# Altium footprint library OSSI.PCBLIB: 194 footprints (part 9 of 13)
Each footprint in its own frame and in the unit in brackets; x right, y up, seen from the top. Pads: shape width x height; smd on the part's side, far side on the other; paste and mask are expansions set on the pad; w line width, h text height; cw(c..) or ccw(c..) is an arc to the next point about the centre after c.
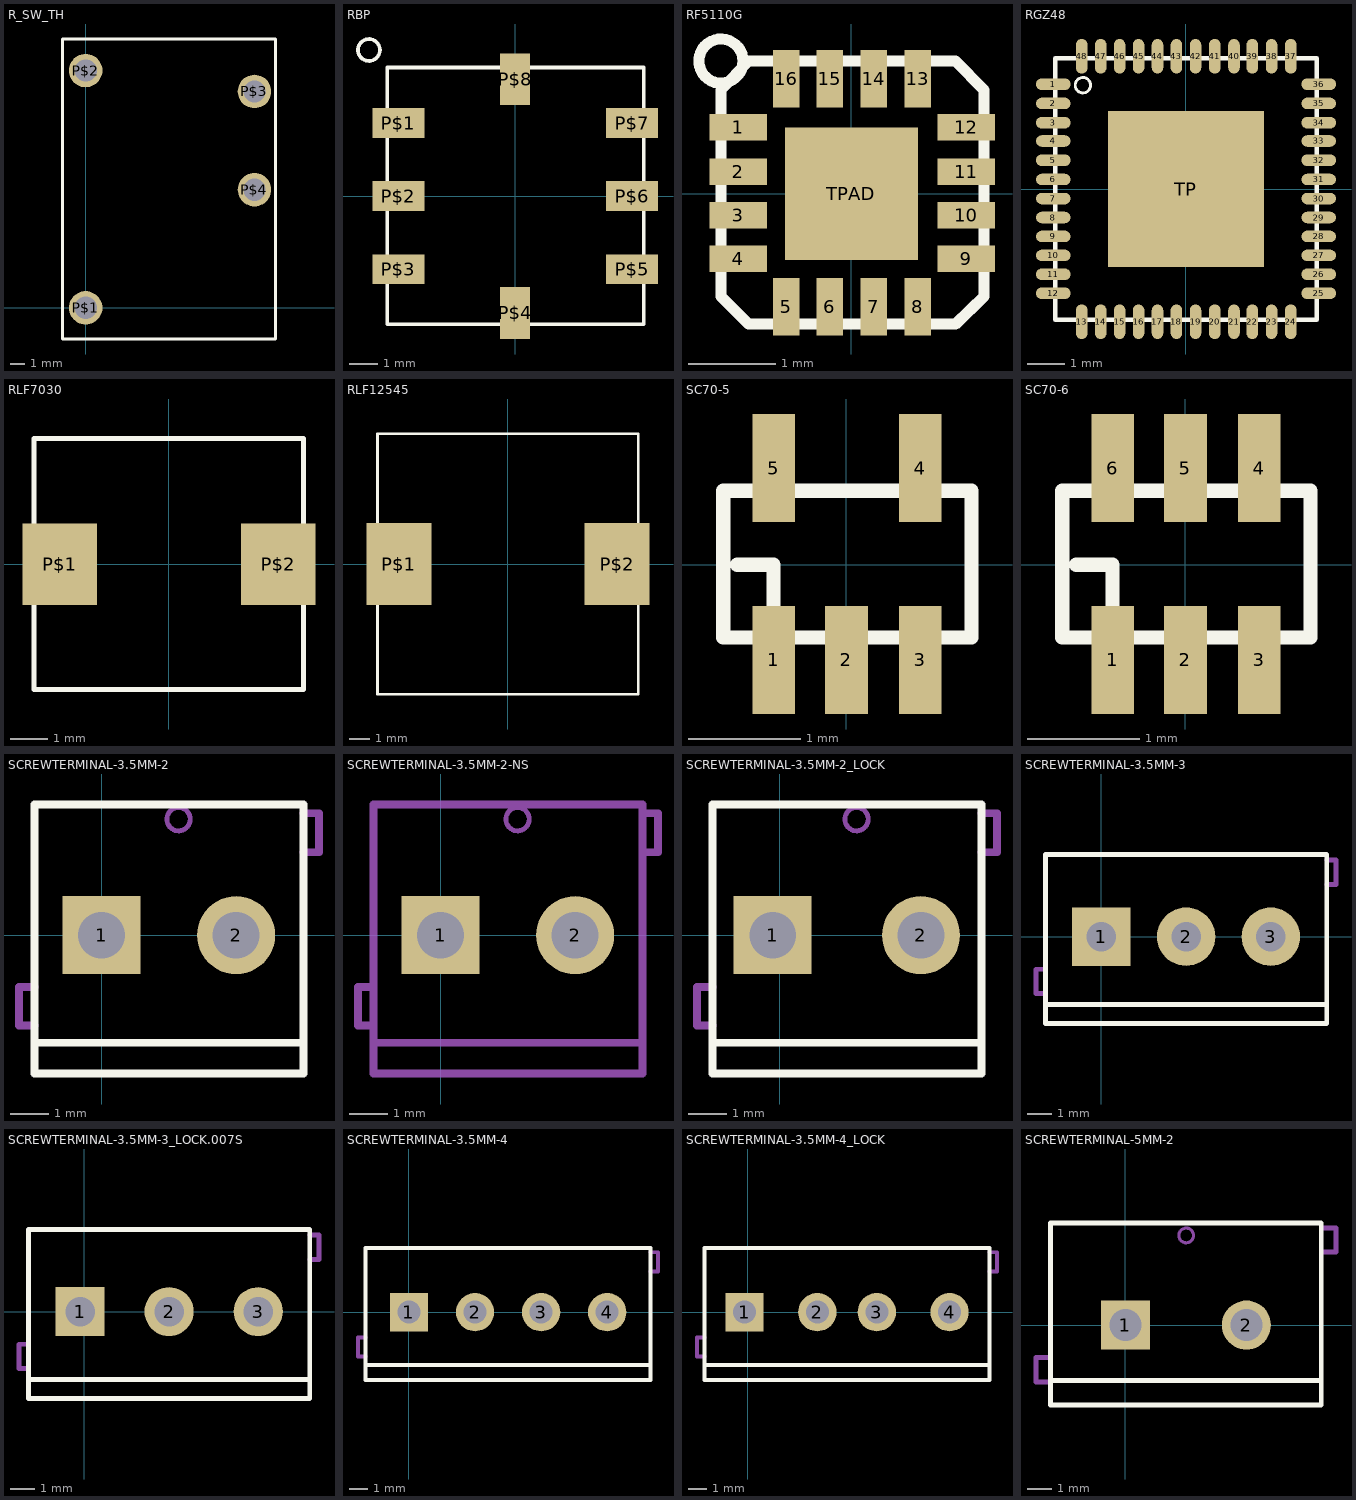
[diagram p8: the footprints below, top view; thin cyan lines are the x and y axes]

## R_SW_TH [mil]
pads (4):
  round 94.5 hole 63: P$1(0,0) P$2(0,669) P$3(476,610) P$4(476,333)
Top Overlay:
  lines w8: -65,-88 -65,-54 -65,758 535,758 535,-88 -65,-88

## RBP [mil]
pads (8):
  rect 71x41 smd: P$1(-159.84,100) P$2(-159.84,0) P$3(-159.84,-100) P$5(160,-100) P$6(160,0) P$7(160,100)
  rect 41x71 smd: P$4(0,-159.84) P$8(0,160)
Top Overlay:
  circle w5: c-200,200 r15
  lines w5: -175.2,-175.2 -175.2,176 176,176 176,-175.2 -175.2,-175.2
Mechanical 2:
  text ">NAME" at 100,-250 h77.5
Mechanical 4:
  text ">VALUE" at 100,-310 h77.5

## RF5110G [mil]
pads (17):
  rect 26x12 smd: 1(-51.18,30) 2(-51.18,10) 3(-51.18,-9.84) 4(-51.18,-29.53) 9(52,-29.53) 10(52,-9.84) 11(52,10) 12(52,30)
  rect 12x26 smd: 5(-29.53,-51.18) 6(-9.84,-51.18) 7(10,-51.18) 8(30,-51.18) 13(30,52) 14(10,52) 15(-9.84,52) 16(-29.53,52)
  rect 60x60 smd: TPAD(0,0)
Top Overlay:
  circle w5: c-59.06,60 r10
  lines w5: -59.06,-46.56 -59.06,47 -46.56,60 47,60 60,47 60,-46.56 47,-59.06 -46.56,-59.06 -59.06,-46.56
Top Solder:
  rectangle: -37.01,37 -22.05,66
  rectangle: -17.32,37 -2.36,66
  rectangle: 3,37 18,66
  rectangle: 23,37 38,66
  rectangle: -37.01,-65.75 -22.05,-36.61
  rectangle: -17.32,-65.75 -2.36,-36.61
  rectangle: 3,-65.75 18,-36.61
  rectangle: 23,-65.75 38,-36.61
  region: 66.07,-37.03 66.07,-22.03 36.93,-22.03 36.93,-37.03
  region: 66.2,-17.2 66.2,-2.2 36.8,-2.2 36.8,-17.2
  region: 66.36,2.64 66.36,17.64 36.64,17.64 36.64,2.64
  region: 66.5,22.5 66.5,37.5 36.5,37.5 36.5,22.5
  region: -36.61,-37.01 -36.61,-22.05 -65.75,-22.05 -65.75,-37.01
  region: -36.48,-17.19 -36.48,-2.22 -65.89,-2.22 -65.89,-17.19
  region: -36.32,2.66 -36.32,17.62 -66.04,17.62 -66.04,2.66
  region: -36.18,22.52 -36.18,37.48 -66.18,37.48 -66.18,22.52
  rectangle: -31.5,-31.5 32,32
Mechanical 2:
  text ">NAME" at -157.48,158 h108.5
Mechanical 4:
  text ">VALUE" at -157.48,79 h108.5

## RGZ48 [mil]
pads (49):
  rrect100% 36x12 smd: 1(-137.8,109) 2(-137.8,89) 3(-137.8,69) 4(-137.8,50) 5(-137.8,30) 6(-137.8,10) 7(-137.8,-9.84) 8(-137.8,-29.53) 9(-137.8,-49.21) 10(-137.8,-68.9) 11(-137.8,-88.58) 12(-137.8,-108.27) 25(138,-108.27) 26(138,-88.58) 27(138,-68.9) 28(138,-49.21) 29(138,-29.53) 30(138,-9.84) 31(138,10) 32(138,30) 33(138,50) 34(138,69) 35(138,89) 36(138,109)
  rrect100% 12x36 smd: 13(-108.27,-137.8) 14(-88.58,-137.8) 15(-68.9,-137.8) 16(-49.21,-137.8) 17(-29.53,-137.8) 18(-9.84,-137.8) 19(10,-137.8) 20(30,-137.8) 21(50,-137.8) 22(69,-137.8) 23(89,-137.8) 24(109,-137.8) 37(109,138) 38(89,138) 39(69,138) 40(50,138) 41(30,138) 42(10,138) 43(-9.84,138) 44(-29.53,138) 45(-49.21,138) 46(-68.9,138) 47(-88.58,138) 48(-108.27,138)
  rect 162x162 smd: TP(0,0)
Top Overlay:
  circle w3: c-107.09,108 r8
  lines w5: -135.83,-135.83 -135.83,136 136,136 136,-135.83 -135.83,-135.83
Mechanical 2:
  text ">NAME" at -98.43,163 h62
Mechanical 4:
  text ">VALUE" at -102.76,-201.18 h62

## RLF7030 [mil]
pads (2):
  rect 79x87 smd: P$1(-116.14,0) P$2(117,0)
Top Overlay:
  lines w5: -143.7,-133.86 144,-133.86 144,134 -143.7,134 -143.7,-133.86
Mechanical 2:
  text ">NAME" at -150,150 h77.5
Mechanical 4:
  text ">VALUE" at -150,-200 h77.5

## RLF12545 [mil]
pads (2):
  rect 126x158 smd: P$1(-210.63,0) P$2(211,0)
Top Overlay:
  lines w5: -251.97,-251.97 252,-251.97 252,252 -251.97,252 -251.97,-251.97
Mechanical 2:
  text ">NAME" at -200,200 h77.5
Mechanical 4:
  text ">VALUE" at -200,150 h77.5

## SC70-5 [mil]
pads (5):
  rect 15x38 smd: 1(-25.59,-33.46) 2(0,-33.46) 3(26,-33.46) 4(26,34) 5(-25.59,34)
Top Overlay:
  lines w5: -38.39,0 -25.59,0 -25.59,-25.59 ; -25.59,-25.59 -43.31,-25.59 -43.31,26 44,26 44,-25.59 -25.59,-25.59
Mechanical 2:
  text ">NAME" at -51.18,-127.95 h77.5
Mechanical 4:
  text ">VALUE" at 103,-153.54 h77.5

## SC70-6 [mil]
pads (6):
  rect 15x38 smd: 1(-25.59,-33.46) 2(0,-33.46) 3(26,-33.46) 4(26,34) 5(0,34) 6(-25.59,34)
Top Overlay:
  lines w5: -38.39,0 -25.59,0 -25.59,-25.59 ; -25.59,-25.59 -43.31,-25.59 -43.31,26 44,26 44,-25.59 -25.59,-25.59
Mechanical 2:
  text ">NAME" at -51.18,-127.95 h77.5
Mechanical 4:
  text ">VALUE" at 103,-153.54 h77.5

## SCREWTERMINAL-3.5MM-2 [mil]
pads (2):
  rect 80x80 hole 48: 1(0,0)
  round 80 hole 48: 2(138,0)
Top Overlay:
  lines w8: -68.9,-110.24 -68.9,-141.73 207,-141.73 207,-110.24 ; -68.9,-110.24 -68.9,134 207,134 207,-110.24 ; -68.9,-110.24 207,-110.24
Mechanical 2:
  text ">NAME" at -50,100 h24.8
Mechanical 4:
  text ">VALUE" at -50,50 h24.8
Mechanical 16:
  circle w5: c79,119 r12
  lines w8: -68.9,-92.52 -84.65,-92.52 -84.65,-53.15 -68.9,-53.15 ; 207,85 223,85 223,125 207,125

## SCREWTERMINAL-3.5MM-2-NS [mil]
pads (2):
  rect 80x80 hole 48: 1(0,0)
  round 80 hole 48: 2(138,0)
Mechanical 2:
  text ">NAME" at -50,100 h24.8
Mechanical 4:
  text ">VALUE" at -50,50 h24.8
Mechanical 16:
  circle w5: c79,119 r12
  lines w8: -68.9,-92.52 -84.65,-92.52 -84.65,-53.15 -68.9,-53.15 ; 207,85 223,85 223,125 207,125 ; -68.9,-110.24 -68.9,-141.73 207,-141.73 207,-110.24 ; -68.9,-110.24 -68.9,134 207,134 207,-110.24 ; -68.9,-110.24 207,-110.24

## SCREWTERMINAL-3.5MM-2_LOCK [mil]
pads (2):
  rect 80x80 hole 48: 1(-7,0)
  round 80 hole 48: 2(145,0)
Top Overlay:
  lines w8: -68.9,-110.24 -68.9,-141.73 207,-141.73 207,-110.24 ; -68.9,-110.24 -68.9,134 207,134 207,-110.24 ; -68.9,-110.24 207,-110.24
Mechanical 2:
  text ">NAME" at -50,100 h24.8
Mechanical 4:
  text ">VALUE" at -50,50 h24.8
Mechanical 16:
  circle w5: c79,119 r12
  circle w1: c0,0 r17
  circle w1: c138,0 r17
  lines w8: -68.9,-92.52 -84.65,-92.52 -84.65,-53.15 -68.9,-53.15 ; 207,85 223,85 223,125 207,125

## SCREWTERMINAL-3.5MM-3 [mil]
pads (3):
  rect 95x95 hole 48: 1(0,0)
  round 95 hole 48: 2(138,0) 3(276,0)
Top Overlay:
  lines w8: -90.55,-110.24 -90.55,-141.73 367,-141.73 367,-110.24 ; -90.55,-110.24 -90.55,134 367,134 367,-110.24 ; -90.55,-110.24 367,-110.24
Mechanical 2:
  text ">NAME" at -50,100 h24.8
Mechanical 4:
  text ">VALUE" at -50,50 h24.8
Mechanical 16:
  lines w8: -90.55,-92.52 -106.3,-92.52 -106.3,-53.15 -90.55,-53.15 ; 367,85 382,85 382,125 367,125

## SCREWTERMINAL-3.5MM-3_LOCK.007S [mil]
pads (3):
  rect 80x80 hole 48: 1(-7,0)
  round 80 hole 48: 2(138,0) 3(283,0)
Top Overlay:
  lines w8: -90.55,-110.24 -90.55,-141.73 367,-141.73 367,-110.24 ; -90.55,-110.24 -90.55,134 367,134 367,-110.24 ; -90.55,-110.24 367,-110.24
Mechanical 2:
  text ">NAME" at -50,100 h24.8
Mechanical 4:
  text ">VALUE" at -50,50 h24.8
Mechanical 16:
  circle w1: c0,0 r17
  circle w1: c138,0 r17
  circle w1: c276,0 r17
  lines w8: -90.55,-92.52 -106.3,-92.52 -106.3,-53.15 -90.55,-53.15 ; 367,85 382,85 382,125 367,125

## SCREWTERMINAL-3.5MM-4 [mil]
pads (4):
  rect 80x80 hole 48: 1(0,0)
  round 80 hole 48: 2(138,0) 3(276,0) 4(414,0)
Top Overlay:
  lines w8: -90.55,-110.24 -90.55,-141.73 504,-141.73 504,-110.24 ; -90.55,-110.24 -90.55,134 504,134 504,-110.24 ; -90.55,-110.24 504,-110.24
Mechanical 2:
  text ">NAME" at -50,100 h24.8
Mechanical 4:
  text ">VALUE" at -50,50 h24.8
Mechanical 16:
  circle w1: c0,0 r17
  circle w1: c138,0 r17
  circle w1: c276,0 r17
  circle w1: c414,0 r17
  lines w8: -90.55,-92.52 -106.3,-92.52 -106.3,-53.15 -90.55,-53.15 ; 504,85 520,85 520,125 504,125

## SCREWTERMINAL-3.5MM-4_LOCK [mil]
pads (4):
  rect 80x80 hole 48: 1(-7,0)
  round 80 hole 48: 2(145,0) 3(269,0) 4(421,0)
Top Overlay:
  lines w8: -90.55,-110.24 -90.55,-141.73 504,-141.73 504,-110.24 ; -90.55,-110.24 -90.55,134 504,134 504,-110.24 ; -90.55,-110.24 504,-110.24
Mechanical 2:
  text ">NAME" at -50,100 h24.8
Mechanical 4:
  text ">VALUE" at -50,50 h24.8
Mechanical 16:
  circle w1: c0,0 r17
  circle w1: c138,0 r17
  circle w1: c276,0 r17
  circle w1: c414,0 r17
  lines w8: -90.55,-92.52 -106.3,-92.52 -106.3,-53.15 -90.55,-53.15 ; 504,85 520,85 520,125 504,125

## SCREWTERMINAL-5MM-2 [mil]
pads (2):
  rect 80x80 hole 52: 1(0,0)
  round 80 hole 52: 2(197,0)
Top Overlay:
  lines w8: -122.05,-90.55 -122.05,-129.92 319,-129.92 319,-90.55 ; -122.05,-90.55 -122.05,166 319,166 319,-90.55 ; -122.05,-90.55 319,-90.55
Mechanical 2:
  text ">NAME" at -50,100 h24.8
Mechanical 4:
  text ">VALUE" at -50,50 h24.8
Mechanical 16:
  circle w5: c99,146 r12
  lines w8: -122.05,-92.52 -145.67,-92.52 -145.67,-53.15 -122.05,-53.15 ; 319,119 343,119 343,158 319,158